# Altium schematic symbol library Resistor.SchLib: 9 symbols
Pins are listed as number, name and electrical type; pins without a type are passive.

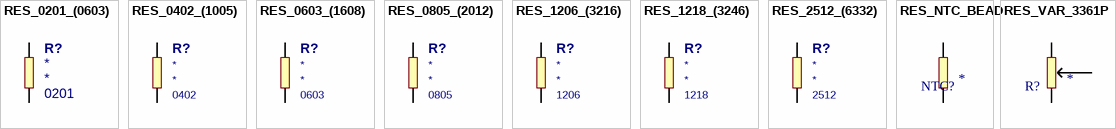
[diagram p0: symbols RES_0201_(0603) to RES_VAR_3361P]

## RES_0201_(0603)
designator R?  Package: 0201
RES_0201_(0603); Manufacturer 1: *; Manufacturer Part Number 1: *; Supplier 1: *; Supplier Part Number 1: *; Power: *; Tolerance: *; Resistance: *
footprint RES_0201_(0603)
pins: 1, 2

## RES_0402_(1005)
designator R?  Package: 0402
RES_0402_(1005); Manufacturer 1: *; Manufacturer Part Number 1: *; Supplier 1: *; Supplier Part Number 1: *; Power: *; Tolerance: *; Resistance: *
footprint RES_0402_(1005)
pins: 1, 2

## RES_0603_(1608)
designator R?  Package: 0603
RES_0603_(1608); Manufacturer 1: *; Manufacturer Part Number 1: *; Supplier 1: *; Supplier Part Number 1: *; Power: *; Tolerance: *; Resistance: *
footprint RES_0603_(1608)
pins: 1, 2

## RES_0805_(2012)
designator R?  Package: 0805
RES_0805_(2012); Manufacturer 1: *; Manufacturer Part Number 1: *; Supplier 1: *; Supplier Part Number 1: *; Power: *; Tolerance: *; Resistance: *
footprint RES_0805_(2012)
pins: 1, 2

## RES_1206_(3216)
designator R?  Package: 1206
RES_1206_(3216); Manufacturer 1: *; Manufacturer Part Number 1: *; Supplier 1: *; Supplier Part Number 1: *; Power: *; Tolerance: *; Resistance: *
footprint RES_1206_(3216)
pins: 1, 2

## RES_1218_(3246)
designator R?  Package: 1218
RES_1218_(3246); Manufacturer 1: *; Manufacturer Part Number 1: *; Supplier 1: *; Supplier Part Number 1: *; Power: *; Tolerance: *; Resistance: *
footprint RESC3246X06L (Chip Resistor, 2-Leads, Body 3.15x4.60mm, IPC High Density)
pins: 1, 2

## RES_2512_(6332)
designator R?  Package: 2512
RES_2512_(6332); Manufacturer 1: *; Manufacturer Part Number 1: *; Supplier 1: *; Supplier Part Number 1: *; Power: *; Tolerance: *; Resistance: *
footprint RES_2512_(6332)
pins: 1, 2

## RES_NTC_BEAD
designator NTC?
THERMISTOR NTC; Package: *; Manufacturer 1: *; Manufacturer Part Number 1: *; Value: *
footprint RES_NTC_BEAD (Footprint not found)
pins: 1, 2

## RES_VAR_3361P
designator R?, comment ERP_101-1  (value not drawn)
TRIMMER 200 OHM 0.5W GW TOP ADJ; Manufacturer 1: Bourns Inc.; Package: L7.0XW6.7; Manufacturer Part Number 1: *; Supplier 1: *; Supplier Part Number 1: *; ERP: *; Value: *
footprint RES_VAR_3361P
pins: 1, 2, 3